# Altium schematic symbol library passive_chip_ind.SchLib: 10 symbols
Pins are listed as number, name and electrical type; pins without a type are passive.

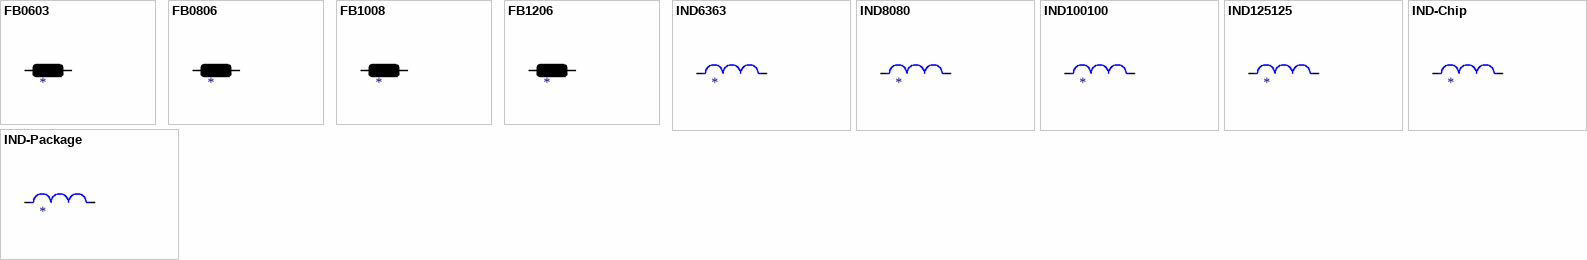
[diagram p0: symbols FB0603 to IND-Package]

## FB0603
designator FB?
Ferrite bead 0603; Name: *; Resistance: *; RevisionDate: 11-01-2018; Value: *
footprint RES0603
pins: 1, 2

## FB0806
designator FB?
Ferrite bead 0806; Name: *; Resistance: *; RevisionDate: 11-01-2018; Value: *
footprint RES0806 (Chip Resistor, 2-Leads, Body 2,00x1,60mm, IPC Medium Density)
pins: 1, 2

## FB1008
designator FB?
Ferrite bead 1008; Name: *; Resistance: *; RevisionDate: 11-01-2018; Value: *
footprint RES1008 (Chip Resistor, 2-Leads, Body 2,50x2,00mm, IPC Medium Density)
pins: 1, 2

## FB1206
designator FB?
Ferrite bead 1206; Name: *; Resistance: *; RevisionDate: 11-01-2018; Value: *
footprint RES1206 (Chip Resistor, 2-Leads, Body 3,13x1,55mm, IPC Medium Density)
pins: 1, 2

## IND6363
designator L?
Inductor 6.3x6.3/2525; Name: *; Resistance: *; RevisionDate: 11-01-2018; Value: *
footprint IND2525W/6363 (Precision Wire Wound Inductor, 2-Leads, Body 6,30x6,30mm, IPC Medium Density)
pins: 1, 2

## IND8080
designator L?
Inductor 8.0x8.0/3131; Name: *; Resistance: *; RevisionDate: 11-01-2018; Value: *
footprint IND3131/8080 (Precision Wire Wound Inductor, 2-Leads, Body 8,15x8,15mm, IPC Medium Density)
footprint IND3131V/8080 (Precision Wire Wound Inductor, 2-Leads, Body 8,15x8,15mm, IPC Medium Density)
footprint IND3131W/8080 (Precision Wire Wound Inductor, 2-Leads, Body 8,15x8,15mm, IPC Medium Density)
pins: 1, 2

## IND100100
designator L?
Inductor 10x10/4040; Name: *; Resistance: *; RevisionDate: 11-01-2018; Value: *
footprint IND4040/100100 (Precision Wire Wound Inductor, 2-Leads, Body 10,15x10,15mm, IPC Medium Density)
footprint IND4040V/100100 (Precision Wire Wound Inductor, 2-Leads, Body 10,15x10,15mm, IPC Medium Density)
pins: 1, 2

## IND125125
designator L?
Inductor 12.5x12.5/4949; Name: *; Resistance: *; RevisionDate: 11-01-2018; Value: *
footprint IND4949/125125 (Precision Wire Wound Inductor, 2-Leads, Body 12,65x12,65mm, IPC Medium Density)
pins: 1, 2

## IND-Chip
designator L?
Inductor Metric/Imperial; Name: *; Resistance: *; RevisionDate: 11-01-2018; Value: *
footprint RES0201 (Chip Resistor, 2-Leads, Body 0,60x0,30mm, IPC Medium Density)
footprint RES0402 (Chip Resistor, 2-Leads, Body 1,00x0,50mm, IPC Medium Density)
footprint RES0603 (Chip Resistor, 2-Leads, Body 1,75x0,95mm, IPC Medium Density)
footprint RES0806 (Chip Resistor, 2-Leads, Body 2,00x1,60mm, IPC Medium Density)
footprint RES1008 (Chip Resistor, 2-Leads, Body 2,50x2,00mm, IPC Medium Density)
footprint RES1206 (Chip Resistor, 2-Leads, Body 3,13x1,55mm, IPC Medium Density)
footprint RES1210 (Chip Resistor, 2-Leads, Body 3,20x2,50mm, IPC Medium Density)
footprint RES1812 (Chip Resistor, 2-Leads, Body 4,50x3,20mm, IPC Medium Density)
footprint RES2010 (Chip Resistor, 2-Leads, Body 5,00x2,50mm, IPC Medium Density)
footprint RES2512 (Chip Resistor, 2-Leads, Body 6,40x3,20mm, IPC Medium Density)
pins: 1, 2

## IND-Package
designator L?
Inductor Metric/Imperial; Name: *; Resistance: *; RevisionDate: 11-01-2018; Value: *
footprint IND1515/4040 (Precision Wire Wound Inductor, 2-Leads, Body 4,00x4,00mm, IPC Medium Density)
footprint IND2020W/5252 (Precision Wire Wound Inductor, 2-Leads, Body 5,10x5,10mm, IPC Medium Density)
footprint IND2525W/6363 (Precision Wire Wound Inductor, 2-Leads, Body 6,30x6,30mm, IPC Medium Density)
footprint IND3131/8080 (Precision Wire Wound Inductor, 2-Leads, Body 8,15x8,15mm, IPC Medium Density)
footprint IND3131W/8080 (Precision Wire Wound Inductor, 2-Leads, Body 8,15x8,15mm, IPC Medium Density)
footprint IND4040/100100 (Precision Wire Wound Inductor, 2-Leads, Body 10,15x10,15mm, IPC Medium Density)
footprint IND4949/125125 (Precision Wire Wound Inductor, 2-Leads, Body 12,65x12,65mm, IPC Medium Density)
pins: 1, 2